# EAGLE library part L09P (library con-amp-mt)
AMP MT CONNECTOR
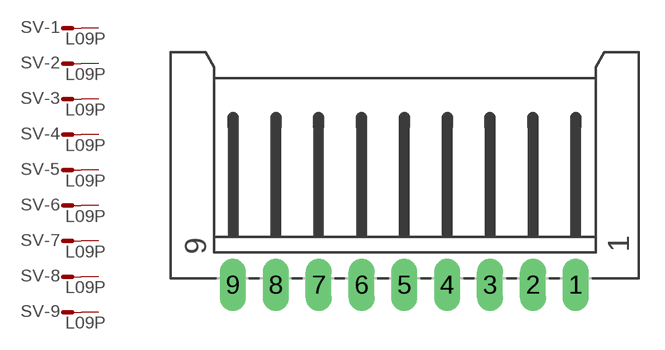
[diagram p9: symbol with the pads of L09P; footprint L09P]

Designator prefix SV; gates -1=M -2=M -3=M -4=M -5=M -6=M -7=M -8=M -9=M

## L09P (OC_FARNELL: unknown; OC_NEWARK: unknown)  [L09P]
1  -1:S  pas
2  -2:S  pas
3  -3:S  pas
4  -4:S  pas
5  -5:S  pas
6  -6:S  pas
7  -7:S  pas
8  -8:S  pas
9  -9:S  pas

## Footprint L09P (pad centres in mm)
AMP MT CONNECTOR
drill 1.016 long: 1 10,-6.25; 2 7.5,-6.25; 3 5,-6.25; 4 2.5,-6.25; 5 0,-6.25; 6 -2.5,-6.25; 7 -5,-6.25; 8 -7.5,-6.25; 9 -10,-6.25